# EAGLE library part MCP23008-E/SO (library MCP23008-E_SO)
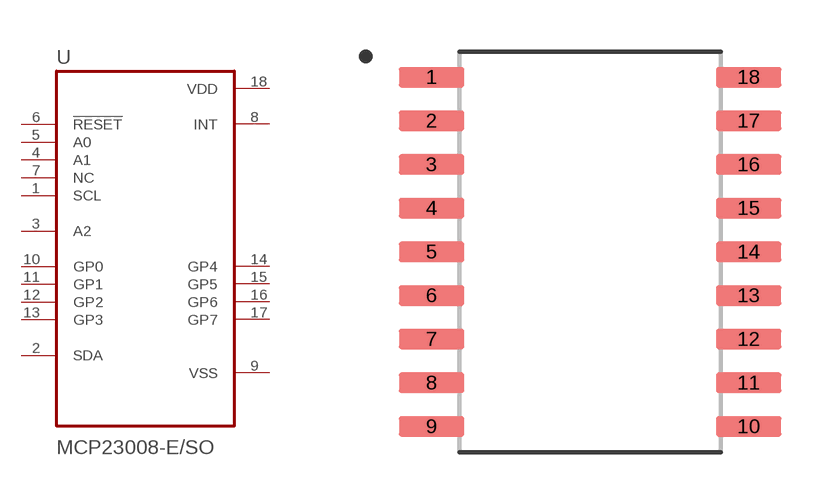
[diagram p0: symbol with the pads of SOIC127P1030X265-18N; footprint SOIC127P1030X265-18N]

Designator prefix U

## MCP23008-E/SO (Description: I/O Expander 8 I²C 1.7MHz 18-SOIC; Digi-Key_Part_Number: MCP23008-E/SO-ND; Digi-Key_Purchase_URL: https://www.digikey.nl/product-detail/en/microchip-technology/MCP23008-E-SO/MCP23008-E-SO-ND/735952?utm_source=snapeda&utm_medium=aggregator&utm_campaign=symbol; MF: Microchip; MP: MCP23008-E/SO; Package: SOIC-18 Microchip)  [SOIC127P1030X265-18N]
1  SCL  in
2  SDA
3  A2
4  A1  in
5  A0  in
6  !RESET  in
7  NC  in
8  INT  out
9  VSS  pwr
10  GP0
11  GP1
12  GP2
13  GP3
14  GP4
15  GP5
16  GP6
17  GP7
18  VDD  pwr

## Footprint SOIC127P1030X265-18N (pad centres in mm)
smd 1.91 x 0.6: 1 -4.61,5.08; 2 -4.61,3.81; 3 -4.61,2.54; 4 -4.61,1.27; 5 -4.61,0; 6 -4.61,-1.27; 7 -4.61,-2.54; 8 -4.61,-3.81; 9 -4.61,-5.08; 10 4.61,-5.08; 11 4.61,-3.81; 12 4.61,-2.54; 13 4.61,-1.27; 14 4.61,0; 15 4.61,1.27; 16 4.61,2.54; 17 4.61,3.81; 18 4.61,5.08